# Altium schematic symbol library custom-block.SchLib: 1 symbol
Pins are listed as number, name and electrical type; pins without a type are passive.

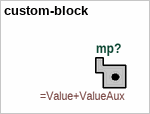
[diagram p0: symbol custom-block]

## custom-block
designator mp?  (mechanical)
=Description